# Altium schematic symbol library ADP1755.Schlib: 1 symbol
Pins are listed as number, name and electrical type; pins without a type are passive.

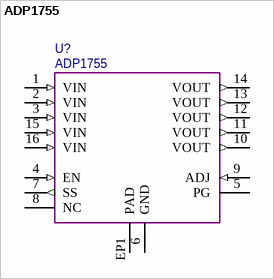
[diagram p0: symbol ADP1755]

## ADP1755
designator U?
pins: 1 VIN (in), 2 VIN (in), 3 VIN (in), 4 EN (in), 5 PG (oc), 6 GND (power), 7 SS (out), 8 NC (hiz), 9 ADJ (in), 10 VOUT (out), 11 VOUT (out), 12 VOUT (out), 13 VOUT (out), 14 VOUT (out), 15 VIN (in), 16 VIN (in), EP1 PAD (power)